# Altium schematic symbol library N_MOS-SOT-23.SchLib: 1 symbol
Pins are listed as number, name and electrical type; pins without a type are passive.

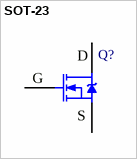
[diagram p0: symbol SOT-23]

## SOT-23
designator Q?
pins: 1 G, 2 S, 3 D